# EAGLE library part 47_PIN_CON (library Dmitry)
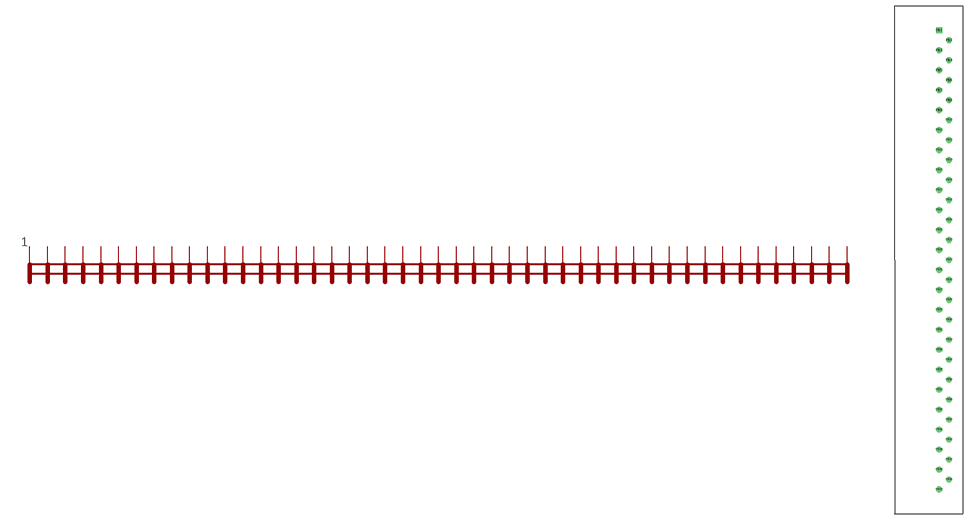
[diagram p11: symbol with the pads of 47_PIN_CON; footprint 47_PIN_CON]

Designator prefix -

## 47_PIN_CON  [47_PIN_CON]
P$1  P$1
P$2  P$2
P$3  P$3
P$4  P$4
P$5  P$5
P$6  P$6
P$7  P$7
P$8  P$8
P$9  P$9
P$10  P$10
P$11  P$11
P$12  P$12
P$13  P$13
P$14  P$14
P$15  P$15
P$16  P$16
P$17  P$17
P$18  P$18
P$19  P$19
P$20  P$20
P$21  P$21
P$22  P$22
P$23  P$23
P$24  P$24
P$25  P$25
P$26  P$26
P$27  P$27
P$28  P$28
P$29  P$29
P$30  P$30
P$31  P$31
P$32  P$32
P$33  P$33
P$34  P$34
P$35  P$35
P$36  P$36
P$37  P$37
P$38  P$38
P$39  P$39
P$40  P$40
P$41  P$41
P$42  P$42
P$43  P$43
P$44  P$44
P$45  P$45
P$46  P$46
P$47  P$47

## Footprint 47_PIN_CON (pad centres in mm)
drill 1 square: P$1 2.54,50.8
drill 1 octagon: P$2 5.08,48.26; P$3 2.54,45.72; P$4 5.08,43.18; P$5 2.54,40.64; P$6 5.08,38.1; P$7 2.54,35.56; P$8 5.08,33.02; P$9 2.54,30.48; P$10 5.08,27.94; P$11 2.54,25.4; P$12 5.08,22.86; P$13 2.54,20.32; P$14 5.08,17.78; P$15 2.54,15.24; P$16 5.08,12.7; P$17 2.54,10.16; P$18 5.08,7.62; P$19 2.54,5.08; P$20 5.08,2.54; P$21 2.54,0; P$22 5.08,-2.54; P$23 2.54,-5.08; P$24 5.08,-7.62; P$25 2.54,-10.16; P$26 5.08,-12.7; P$27 2.54,-15.24; P$28 5.08,-17.78; P$29 2.54,-20.32; P$30 5.08,-22.86; P$31 2.54,-25.4; P$32 5.08,-27.94; P$33 2.54,-30.48; P$34 5.08,-33.02; P$35 2.54,-35.56; P$36 5.08,-38.1; P$37 2.54,-40.64; P$38 5.08,-43.18; P$39 2.54,-45.72; P$40 5.08,-48.26; P$41 2.54,-50.8; P$42 5.08,-53.34; P$43 2.54,-55.88; P$44 5.08,-58.42; P$45 2.54,-60.96; P$46 5.08,-63.5; P$47 2.54,-66.04